# Altium footprint library esp32.PcbLib: 8 footprints
Each footprint in its own frame and in the unit in brackets; x right, y up, seen from the top. Pads: shape width x height; smd on the part's side, far side on the other; paste and mask are expansions set on the pad; w line width, h text height; cw(c..) or ccw(c..) is an arc to the next point about the centre after c.
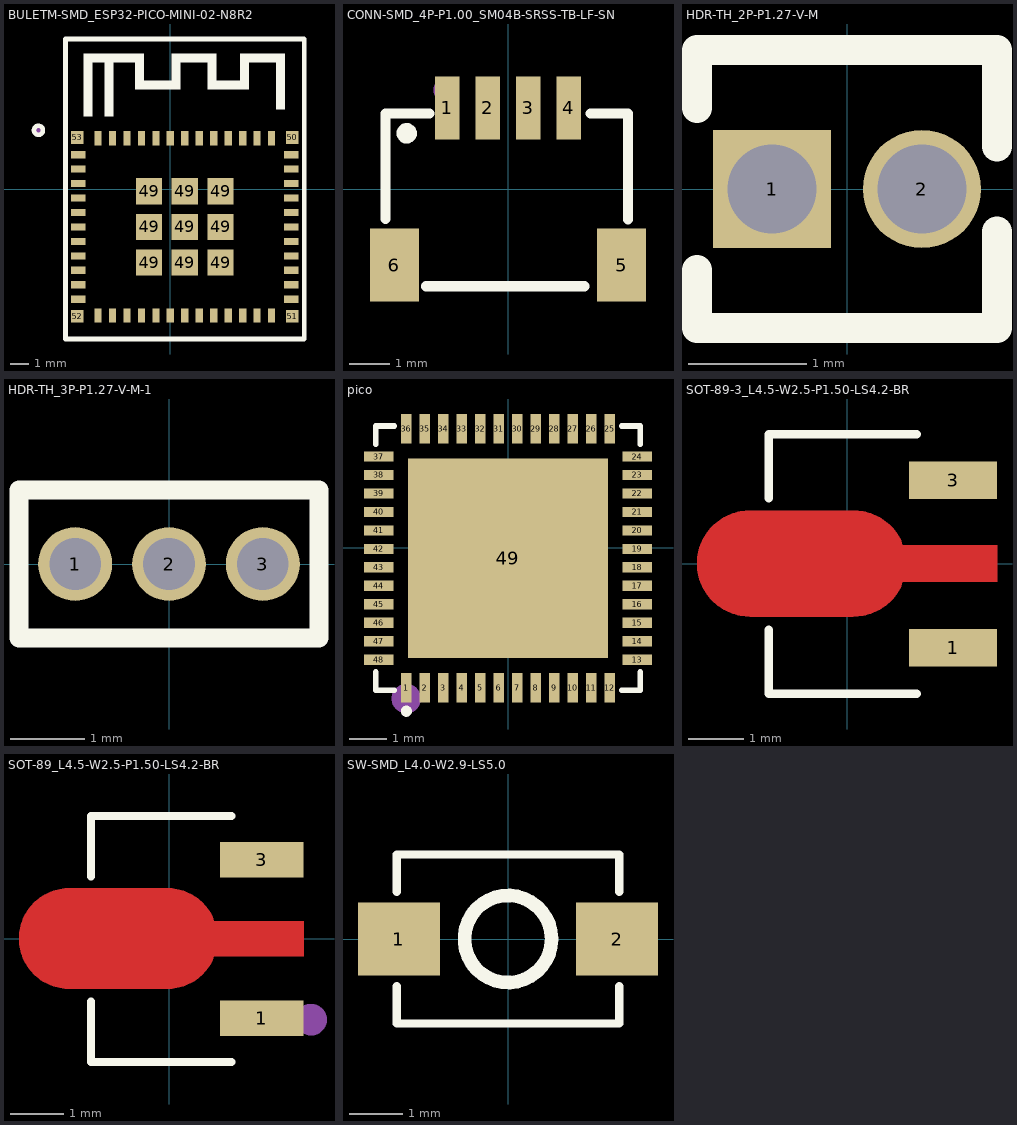
[diagram p0: the footprints below, top view; thin cyan lines are the x and y axes]

## BULETM-SMD_ESP32-PICO-MINI-02-N8R2 [mm]
pads (61):
  rect 0.8x0.4 smd: 1(-5.089,1.9) 2(-5.089,1.1) 3(-5.089,0.3) 4(-5.089,-0.5) 5(-5.089,-1.3) 6(-5.089,-2.1) 7(-5.089,-2.9) 8(-5.089,-3.7) 9(-5.089,-4.5) 10(-5.089,-5.3) 11(-5.089,-6.1) 25(6.712,-6.1) 26(6.712,-5.3) 27(6.712,-4.5) 28(6.712,-3.7) 29(6.712,-2.9) 30(6.712,-2.1) 31(6.712,-1.3) 32(6.712,-0.5) 33(6.712,0.3) 34(6.712,1.1) 35(6.712,1.9)
  rect 0.4x0.8 smd: 12(-3.988,-7) 13(-3.189,-7) 14(-2.389,-7) 15(-1.589,-7) 16(-0.789,-7) 17(0.011,-7) 18(0.811,-7) 19(1.611,-7) 20(2.411,-7) 21(3.211,-7) 22(4.011,-7) 23(4.811,-7) 24(5.611,-7) 36(5.611,2.8) 37(4.811,2.8) 38(4.011,2.8) 39(3.211,2.8) 40(2.411,2.8) 41(1.611,2.8) 42(0.811,2.8) 43(0.011,2.8) 44(-0.789,2.8) 45(-1.589,2.8) 46(-2.389,2.8) 47(-3.189,2.8) 48(-3.988,2.8)
  rect 1.45x1.45 smd: 49(-1.164,-4.075) 49(-1.164,-2.1) 49(-1.164,-0.125) 49(0.811,-4.075) 49(0.811,-2.1) 49(0.811,-0.125) 49(2.786,-4.075) 49(2.786,-2.1) 49(2.786,-0.125)
  rect 0.7x0.7 smd: 50(6.761,2.85) 51(6.761,-7.05) 52(-5.139,-7.05) 53(-5.139,2.85)
Top Overlay:
  circle w0.254: c-7.289,3.25 r0.25
  rectangle: -4.788,4 -4.288,7.5
  rectangle: -4.388,7 -1.888,7.5
  rectangle: -3.639,4 -3.138,7.5
  rectangle: -1.939,5.5 -1.438,7.5
  rectangle: -1.939,5.5 0.562,6
  rectangle: 0.061,5.5 0.562,7.5
  rectangle: 0.061,7 2.562,7.5
  rectangle: 2.061,5.5 2.562,7.5
  rectangle: 2.061,5.5 4.061,6
  rectangle: 3.862,5.5 4.362,7.5
  rectangle: 3.862,7 6.362,7.5
  rectangle: 5.862,4.4 6.362,7.5
  lines w0.254: -5.789,-8.3 -5.789,8.3 7.411,8.3 7.412,-8.3 -5.789,-8.3
Mechanical 15:
  circle w0.3: c-7.289,3.2 r0.15

## CONN-SMD_4P-P1.00_SM04B-SRSS-TB-LF-SN [mm] "4pin 1mm 插座"
pads (6):
  rect 0.6x1.55 smd: 1(-1.5,2.001) 2(-0.5,2.001) 3(0.501,2) 4(1.5,2)
  rect 1.2x1.8 smd: 5(2.8,-1.876) 6(-2.8,-1.875)
Top Overlay:
  circle w0.254: c-2.499,1.375 r0.125
  lines w0.254: -3.02,-0.737 -3.02,1.862 -1.94,1.862 ; -2.02,-2.397 1.88,-2.397 ; 2.04,1.862 2.96,1.862 2.96,-0.744
Mechanical 15:
  circle w0.3: c-1.54,2.442 r0.15

## HDR-TH_2P-P1.27-V-M [mm]
pads (2):
  rect 1x1 hole 0.75: 1(-0.635,0)
  round 1 hole 0.75: 2(0.635,0)
Top Overlay:
  lines w0.254: -1.27,-0.687 -1.27,-1.175 1.27,-1.175 1.27,-0.36 ; -1.27,0.687 -1.27,1.175 1.27,1.175 1.27,0.36

## HDR-TH_3P-P1.27-V-M-1 [mm]
pads (3):
  round 1 hole 0.7: 1(-1.27,0) 2(0,0) 3(1.27,0)
Top Overlay:
  lines w0.254: -2.03,-1 2.03,-1 2.03,1 -2.03,1 -2.03,-1

## pico [mm]
pads (49):
  rect 0.28x0.8 smd: 1(-2.75,-3.778) 2(-2.25,-3.778) 3(-1.75,-3.778) 4(-1.25,-3.778) 5(-0.75,-3.778) 6(-0.25,-3.778) 7(0.25,-3.778) 8(0.75,-3.778) 9(1.25,-3.778) 10(1.75,-3.778) 11(2.25,-3.778) 12(2.75,-3.778) 25(2.75,3.222) 26(2.25,3.222) 27(1.75,3.222) 28(1.25,3.222) 29(0.75,3.222) 30(0.25,3.222) 31(-0.25,3.222) 32(-0.75,3.222) 33(-1.25,3.222) 34(-1.75,3.222) 35(-2.25,3.222) 36(-2.75,3.222)
  rect 0.8x0.28 smd: 13(3.5,-3.027) 14(3.5,-2.527) 15(3.5,-2.027) 16(3.5,-1.527) 17(3.5,-1.027) 18(3.5,-0.527) 19(3.5,-0.027) 20(3.5,0.473) 21(3.5,0.973) 22(3.5,1.473) 23(3.5,1.973) 24(3.5,2.473) 37(-3.5,2.473) 38(-3.5,1.972) 39(-3.5,1.473) 40(-3.5,0.972) 41(-3.5,0.473) 42(-3.5,-0.028) 43(-3.5,-0.527) 44(-3.5,-1.028) 45(-3.5,-1.527) 46(-3.5,-2.028) 47(-3.5,-2.527) 48(-3.5,-3.028)
  rect 5.4x5.4 smd: 49(0,-0.278)
Top Overlay:
  circle w0.15: c-2.75,-4.417 r0.075
  lines w0.152: -3.576,-3.358 -3.576,-3.854 -3.08,-3.854 ; -3.576,2.803 -3.576,3.299 -3.08,3.299 ; 3.081,-3.854 3.576,-3.854 3.576,-3.358 ; 3.081,3.299 3.576,3.299 3.576,2.803
Mechanical 15:
  circle w0.4: c-2.75,-4.078 r0.2

## SOT-89-3_L4.5-W2.5-P1.50-LS4.2-BR [mm]
pads (2):
  rect 1.575x0.672 smd: 1(1.901,-1.509) 3(1.901,1.491)
Top Layer:
  region: -1.739,0.95 0.116,0.95 0.16,0.949 0.204,0.946 0.249,0.941 0.293,0.933 0.336,0.924 0.379,0.913 0.422,0.899 0.464,0.884 0.505,0.867 0.545,0.847 0.584,0.826 0.622,0.804 0.659,0.779 0.695,0.753 0.73,0.725 0.763,0.695 0.795,0.664 0.825,0.631 0.854,0.597 0.881,0.562 0.907,0.525 0.931,0.488 0.953,0.449 0.973,0.409 0.991,0.33 2.688,0.33 2.688,-0.33 0.991,-0.33 0.973,-0.409 0.953,-0.449 0.931,-0.488 0.907,-0.526 0.881,-0.562 0.854,-0.597 0.825,-0.631 0.795,-0.664 0.763,-0.695 0.73,-0.725 0.695,-0.753 0.659,-0.779 0.622,-0.804 0.584,-0.826 0.545,-0.847 0.505,-0.867 0.464,-0.884 0.422,-0.899 0.379,-0.913 0.336,-0.924 0.293,-0.933 0.249,-0.941 0.204,-0.946 0.16,-0.949 0.116,-0.95 -1.739,-0.95 -1.783,-0.949 -1.828,-0.946 -1.872,-0.941 -1.916,-0.933 -1.959,-0.924 -2.002,-0.913 -2.045,-0.899 -2.087,-0.884 -2.128,-0.867 -2.168,-0.847 -2.207,-0.826 -2.245,-0.804 -2.283,-0.779 -2.318,-0.753 -2.353,-0.725 -2.386,-0.695 -2.418,-0.664 -2.449,-0.631 -2.477,-0.597 -2.505,-0.562 -2.53,-0.526 -2.554,-0.488 -2.576,-0.449 -2.596,-0.409 -2.614,-0.369 -2.631,-0.327 -2.645,-0.285 -2.657,-0.242 -2.668,-0.199 -2.676,-0.155 -2.682,-0.111 -2.686,-0.067 -2.688,-0.022 -2.688,0.022 -2.686,0.067 -2.682,0.111 -2.676,0.155 -2.668,0.199 -2.657,0.242 -2.645,0.285 -2.631,0.327 -2.614,0.369 -2.596,0.409 -2.576,0.449 -2.554,0.488 -2.53,0.525 -2.505,0.562 -2.477,0.597 -2.449,0.631 -2.418,0.664 -2.386,0.695 -2.353,0.725 -2.318,0.753 -2.283,0.779 -2.245,0.804 -2.207,0.826 -2.168,0.847 -2.128,0.867 -2.087,0.884 -2.045,0.899 -2.002,0.913 -1.959,0.924 -1.916,0.933 -1.872,0.941 -1.828,0.946 -1.783,0.949
Top Overlay:
  lines w0.152: -1.405,-1.186 -1.405,-2.335 1.247,-2.335 ; -1.405,1.169 -1.405,2.317 1.247,2.317
Top Paste:
  region: -1.739,0.95 0.116,0.95 0.16,0.949 0.204,0.946 0.249,0.941 0.293,0.933 0.336,0.924 0.379,0.913 0.422,0.899 0.464,0.884 0.505,0.867 0.545,0.847 0.584,0.826 0.622,0.804 0.659,0.779 0.695,0.753 0.73,0.725 0.763,0.695 0.795,0.664 0.825,0.631 0.854,0.597 0.881,0.562 0.907,0.525 0.931,0.488 0.953,0.449 0.973,0.409 0.991,0.33 2.688,0.33 2.688,-0.33 0.991,-0.33 0.973,-0.409 0.953,-0.449 0.931,-0.488 0.907,-0.526 0.881,-0.562 0.854,-0.597 0.825,-0.631 0.795,-0.664 0.763,-0.695 0.73,-0.725 0.695,-0.753 0.659,-0.779 0.622,-0.804 0.584,-0.826 0.545,-0.847 0.505,-0.867 0.464,-0.884 0.422,-0.899 0.379,-0.913 0.336,-0.924 0.293,-0.933 0.249,-0.941 0.204,-0.946 0.16,-0.949 0.116,-0.95 -1.739,-0.95 -1.783,-0.949 -1.828,-0.946 -1.872,-0.941 -1.916,-0.933 -1.959,-0.924 -2.002,-0.913 -2.045,-0.899 -2.087,-0.884 -2.128,-0.867 -2.168,-0.847 -2.207,-0.826 -2.245,-0.804 -2.283,-0.779 -2.318,-0.753 -2.353,-0.725 -2.386,-0.695 -2.418,-0.664 -2.449,-0.631 -2.477,-0.597 -2.505,-0.562 -2.53,-0.526 -2.554,-0.488 -2.576,-0.449 -2.596,-0.409 -2.614,-0.369 -2.631,-0.327 -2.645,-0.285 -2.657,-0.242 -2.668,-0.199 -2.676,-0.155 -2.682,-0.111 -2.686,-0.067 -2.688,-0.022 -2.688,0.022 -2.686,0.067 -2.682,0.111 -2.676,0.155 -2.668,0.199 -2.657,0.242 -2.645,0.285 -2.631,0.327 -2.614,0.369 -2.596,0.409 -2.576,0.449 -2.554,0.488 -2.53,0.525 -2.505,0.562 -2.477,0.597 -2.449,0.631 -2.418,0.664 -2.386,0.695 -2.353,0.725 -2.318,0.753 -2.283,0.779 -2.245,0.804 -2.207,0.826 -2.168,0.847 -2.128,0.867 -2.087,0.884 -2.045,0.899 -2.002,0.913 -1.959,0.924 -1.916,0.933 -1.872,0.941 -1.828,0.946 -1.783,0.949
Top Solder:
  region: -1.739,0.95 0.116,0.95 0.16,0.949 0.204,0.946 0.249,0.941 0.293,0.933 0.336,0.924 0.379,0.913 0.422,0.899 0.464,0.884 0.505,0.867 0.545,0.847 0.584,0.826 0.622,0.804 0.659,0.779 0.695,0.753 0.73,0.725 0.763,0.695 0.795,0.664 0.825,0.631 0.854,0.597 0.881,0.562 0.907,0.525 0.931,0.488 0.953,0.449 0.973,0.409 0.991,0.33 2.688,0.33 2.688,-0.33 0.991,-0.33 0.973,-0.409 0.953,-0.449 0.931,-0.488 0.907,-0.526 0.881,-0.562 0.854,-0.597 0.825,-0.631 0.795,-0.664 0.763,-0.695 0.73,-0.725 0.695,-0.753 0.659,-0.779 0.622,-0.804 0.584,-0.826 0.545,-0.847 0.505,-0.867 0.464,-0.884 0.422,-0.899 0.379,-0.913 0.336,-0.924 0.293,-0.933 0.249,-0.941 0.204,-0.946 0.16,-0.949 0.116,-0.95 -1.739,-0.95 -1.783,-0.949 -1.828,-0.946 -1.872,-0.941 -1.916,-0.933 -1.959,-0.924 -2.002,-0.913 -2.045,-0.899 -2.087,-0.884 -2.128,-0.867 -2.168,-0.847 -2.207,-0.826 -2.245,-0.804 -2.283,-0.779 -2.318,-0.753 -2.353,-0.725 -2.386,-0.695 -2.418,-0.664 -2.449,-0.631 -2.477,-0.597 -2.505,-0.562 -2.53,-0.526 -2.554,-0.488 -2.576,-0.449 -2.596,-0.409 -2.614,-0.369 -2.631,-0.327 -2.645,-0.285 -2.657,-0.242 -2.668,-0.199 -2.676,-0.155 -2.682,-0.111 -2.686,-0.067 -2.688,-0.022 -2.688,0.022 -2.686,0.067 -2.682,0.111 -2.676,0.155 -2.668,0.199 -2.657,0.242 -2.645,0.285 -2.631,0.327 -2.614,0.369 -2.596,0.409 -2.576,0.449 -2.554,0.488 -2.53,0.525 -2.505,0.562 -2.477,0.597 -2.449,0.631 -2.418,0.664 -2.386,0.695 -2.353,0.725 -2.318,0.753 -2.283,0.779 -2.245,0.804 -2.207,0.826 -2.168,0.847 -2.128,0.867 -2.087,0.884 -2.045,0.899 -2.002,0.913 -1.959,0.924 -1.916,0.933 -1.872,0.941 -1.828,0.946 -1.783,0.949
Mechanical 15:
  circle w0.3: c2.26,-1.509 r0.15

## SOT-89_L4.5-W2.5-P1.50-LS4.2-BR [mm]
pads (2):
  rect 1.575x0.672 smd: 1(1.755,-1.509) 3(1.755,1.491)
Top Layer:
  region: -1.885,0.95 -0.031,0.95 0.014,0.949 0.058,0.946 0.103,0.941 0.146,0.933 0.19,0.924 0.233,0.913 0.276,0.899 0.317,0.884 0.358,0.867 0.399,0.847 0.438,0.826 0.476,0.804 0.513,0.779 0.549,0.753 0.584,0.725 0.617,0.695 0.649,0.664 0.679,0.631 0.708,0.597 0.735,0.562 0.761,0.525 0.785,0.488 0.806,0.449 0.827,0.409 0.845,0.33 2.542,0.33 2.542,-0.33 0.845,-0.33 0.827,-0.409 0.806,-0.449 0.785,-0.488 0.761,-0.526 0.735,-0.562 0.708,-0.597 0.679,-0.631 0.649,-0.664 0.617,-0.695 0.584,-0.725 0.549,-0.753 0.513,-0.779 0.476,-0.804 0.438,-0.826 0.399,-0.847 0.358,-0.867 0.317,-0.884 0.276,-0.899 0.233,-0.913 0.19,-0.924 0.146,-0.933 0.103,-0.941 0.058,-0.946 0.014,-0.949 -0.031,-0.95 -1.885,-0.95 -1.929,-0.949 -1.974,-0.946 -2.018,-0.941 -2.062,-0.933 -2.106,-0.924 -2.149,-0.913 -2.191,-0.899 -2.233,-0.884 -2.274,-0.867 -2.314,-0.847 -2.353,-0.826 -2.392,-0.804 -2.429,-0.779 -2.465,-0.753 -2.499,-0.725 -2.533,-0.695 -2.564,-0.664 -2.595,-0.631 -2.624,-0.597 -2.651,-0.562 -2.676,-0.526 -2.7,-0.488 -2.722,-0.449 -2.742,-0.409 -2.76,-0.369 -2.777,-0.327 -2.791,-0.285 -2.803,-0.242 -2.814,-0.199 -2.822,-0.155 -2.828,-0.111 -2.833,-0.067 -2.835,-0.022 -2.835,0.022 -2.833,0.067 -2.828,0.111 -2.822,0.155 -2.814,0.199 -2.803,0.242 -2.791,0.285 -2.777,0.327 -2.76,0.369 -2.742,0.409 -2.722,0.449 -2.7,0.488 -2.676,0.525 -2.651,0.562 -2.624,0.597 -2.595,0.631 -2.564,0.664 -2.533,0.695 -2.499,0.725 -2.465,0.753 -2.429,0.779 -2.392,0.804 -2.353,0.826 -2.314,0.847 -2.274,0.867 -2.233,0.884 -2.191,0.899 -2.149,0.913 -2.106,0.924 -2.062,0.933 -2.018,0.941 -1.974,0.946 -1.929,0.949
Top Overlay:
  lines w0.152: -1.473,-1.186 -1.473,-2.335 1.18,-2.335 ; -1.473,1.169 -1.473,2.317 1.18,2.317
Top Paste:
  region: -1.885,0.95 -0.031,0.95 0.014,0.949 0.058,0.946 0.103,0.941 0.146,0.933 0.19,0.924 0.233,0.913 0.276,0.899 0.317,0.884 0.358,0.867 0.399,0.847 0.438,0.826 0.476,0.804 0.513,0.779 0.549,0.753 0.584,0.725 0.617,0.695 0.649,0.664 0.679,0.631 0.708,0.597 0.735,0.562 0.761,0.525 0.785,0.488 0.806,0.449 0.827,0.409 0.845,0.33 2.542,0.33 2.542,-0.33 0.845,-0.33 0.827,-0.409 0.806,-0.449 0.785,-0.488 0.761,-0.526 0.735,-0.562 0.708,-0.597 0.679,-0.631 0.649,-0.664 0.617,-0.695 0.584,-0.725 0.549,-0.753 0.513,-0.779 0.476,-0.804 0.438,-0.826 0.399,-0.847 0.358,-0.867 0.317,-0.884 0.276,-0.899 0.233,-0.913 0.19,-0.924 0.146,-0.933 0.103,-0.941 0.058,-0.946 0.014,-0.949 -0.031,-0.95 -1.885,-0.95 -1.929,-0.949 -1.974,-0.946 -2.018,-0.941 -2.062,-0.933 -2.106,-0.924 -2.149,-0.913 -2.191,-0.899 -2.233,-0.884 -2.274,-0.867 -2.314,-0.847 -2.353,-0.826 -2.392,-0.804 -2.429,-0.779 -2.465,-0.753 -2.499,-0.725 -2.533,-0.695 -2.564,-0.664 -2.595,-0.631 -2.624,-0.597 -2.651,-0.562 -2.676,-0.526 -2.7,-0.488 -2.722,-0.449 -2.742,-0.409 -2.76,-0.369 -2.777,-0.327 -2.791,-0.285 -2.803,-0.242 -2.814,-0.199 -2.822,-0.155 -2.828,-0.111 -2.833,-0.067 -2.835,-0.022 -2.835,0.022 -2.833,0.067 -2.828,0.111 -2.822,0.155 -2.814,0.199 -2.803,0.242 -2.791,0.285 -2.777,0.327 -2.76,0.369 -2.742,0.409 -2.722,0.449 -2.7,0.488 -2.676,0.525 -2.651,0.562 -2.624,0.597 -2.595,0.631 -2.564,0.664 -2.533,0.695 -2.499,0.725 -2.465,0.753 -2.429,0.779 -2.392,0.804 -2.353,0.826 -2.314,0.847 -2.274,0.867 -2.233,0.884 -2.191,0.899 -2.149,0.913 -2.106,0.924 -2.062,0.933 -2.018,0.941 -1.974,0.946 -1.929,0.949
Top Solder:
  region: -1.885,0.95 -0.031,0.95 0.014,0.949 0.058,0.946 0.103,0.941 0.146,0.933 0.19,0.924 0.233,0.913 0.276,0.899 0.317,0.884 0.358,0.867 0.399,0.847 0.438,0.826 0.476,0.804 0.513,0.779 0.549,0.753 0.584,0.725 0.617,0.695 0.649,0.664 0.679,0.631 0.708,0.597 0.735,0.562 0.761,0.525 0.785,0.488 0.806,0.449 0.827,0.409 0.845,0.33 2.542,0.33 2.542,-0.33 0.845,-0.33 0.827,-0.409 0.806,-0.449 0.785,-0.488 0.761,-0.526 0.735,-0.562 0.708,-0.597 0.679,-0.631 0.649,-0.664 0.617,-0.695 0.584,-0.725 0.549,-0.753 0.513,-0.779 0.476,-0.804 0.438,-0.826 0.399,-0.847 0.358,-0.867 0.317,-0.884 0.276,-0.899 0.233,-0.913 0.19,-0.924 0.146,-0.933 0.103,-0.941 0.058,-0.946 0.014,-0.949 -0.031,-0.95 -1.885,-0.95 -1.929,-0.949 -1.974,-0.946 -2.018,-0.941 -2.062,-0.933 -2.106,-0.924 -2.149,-0.913 -2.191,-0.899 -2.233,-0.884 -2.274,-0.867 -2.314,-0.847 -2.353,-0.826 -2.392,-0.804 -2.429,-0.779 -2.465,-0.753 -2.499,-0.725 -2.533,-0.695 -2.564,-0.664 -2.595,-0.631 -2.624,-0.597 -2.651,-0.562 -2.676,-0.526 -2.7,-0.488 -2.722,-0.449 -2.742,-0.409 -2.76,-0.369 -2.777,-0.327 -2.791,-0.285 -2.803,-0.242 -2.814,-0.199 -2.822,-0.155 -2.828,-0.111 -2.833,-0.067 -2.835,-0.022 -2.835,0.022 -2.833,0.067 -2.828,0.111 -2.822,0.155 -2.814,0.199 -2.803,0.242 -2.791,0.285 -2.777,0.327 -2.76,0.369 -2.742,0.409 -2.722,0.449 -2.7,0.488 -2.676,0.525 -2.651,0.562 -2.624,0.597 -2.595,0.631 -2.564,0.664 -2.533,0.695 -2.499,0.725 -2.465,0.753 -2.429,0.779 -2.392,0.804 -2.353,0.826 -2.314,0.847 -2.274,0.867 -2.233,0.884 -2.191,0.899 -2.149,0.913 -2.106,0.924 -2.062,0.933 -2.018,0.941 -1.974,0.946 -1.929,0.949
Mechanical 15:
  circle w0.3: c2.684,-1.533 r0.15

## SW-SMD_L4.0-W2.9-LS5.0 [mm] "按键开关"
pads (2):
  rect 1.53x1.36 smd: 1(-2.035,0) 2(2.035,0)
Top Overlay:
  circle w0.254: c0,0 r0.813
  lines w0.152: -2.076,-0.883 -2.076,-1.576 2.076,-1.576 2.076,-0.883 ; -2.076,0.883 -2.076,1.576 2.076,1.576 2.076,0.883
3D body "3D_PCB1_2022-03-07.step": height 3.61, standoff 1.6, extent -2.628,-1.45 2.374,1.45